# Altium footprint library Hengeveld.PCBLIB: 22 footprints (part 2 of 2)
Each footprint in its own frame and in the unit in brackets; x right, y up, seen from the top. Pads: shape width x height; smd on the part's side, far side on the other; paste and mask are expansions set on the pad; w line width, h text height; cw(c..) or ccw(c..) is an arc to the next point about the centre after c.
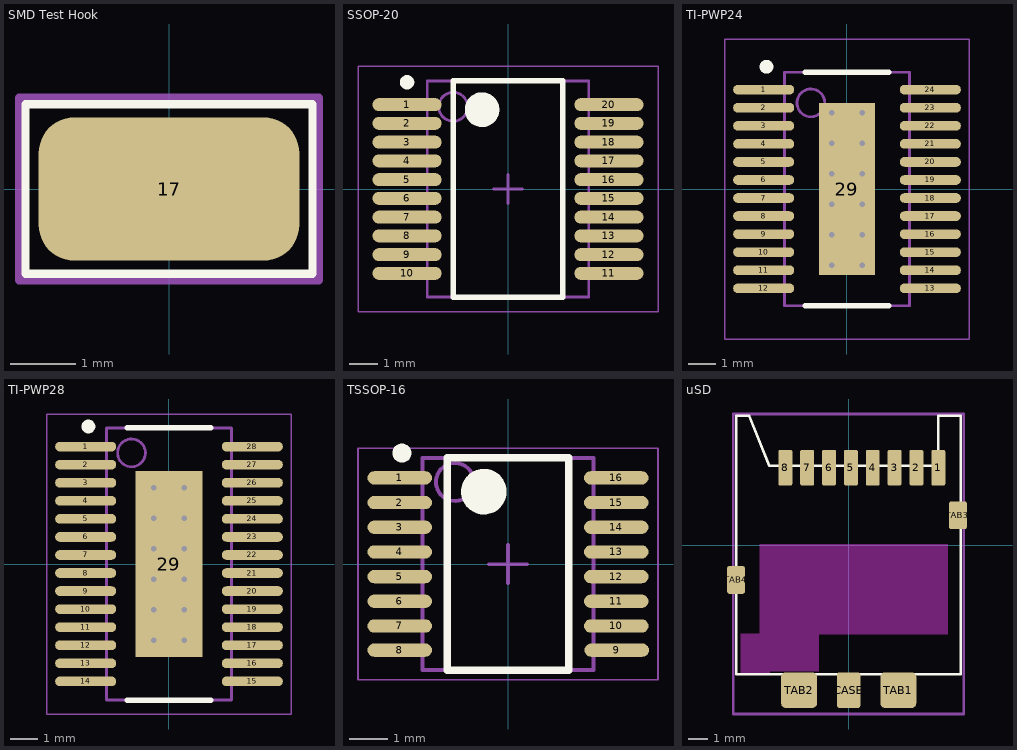
[diagram p1: the footprints below, top view; thin cyan lines are the x and y axes]

## SMD Test Hook [mm] "SMD Test Hook"
height 2.5
pads (1):
  rrect50% 4x2.2 smd: 17(0,0)
Top Overlay:
  lines w0.127: -2.2,-1.3 2.2,-1.3 2.2,1.3 -2.2,1.3 -2.2,-1.3
Mechanical 15:
  lines w0.127: -2.3,-1.4 2.3,-1.4 2.3,1.4 -2.3,1.4 -2.3,-1.4
3D body "Test Point.step": height 2.29, standoff 0, extent -1.905,-1 1.905,1

## SSOP-20 [mm] "SOP, 20-Leads, Body 7.2x5.2mm, Pitch 0.65mm, IPC Low Density"
height 2
pads (20):
  oval 2.4x0.45 smd: 1(-3.5,2.925) 2(-3.5,2.275) 3(-3.5,1.625) 4(-3.5,0.975) 5(-3.5,0.325) 6(-3.5,-0.325) 7(-3.5,-0.975) 8(-3.5,-1.625) 9(-3.5,-2.275) 10(-3.5,-2.925) 11(3.5,-2.925) 12(3.5,-2.275) 13(3.5,-1.625) 14(3.5,-0.975) 15(3.5,-0.325) 16(3.5,0.325) 17(3.5,0.975) 18(3.5,1.625) 19(3.5,2.275) 20(3.5,2.925)
Top Overlay:
  circle w0.25: c-3.5,3.7 r0.125
  circle w0.6: c-0.9,2.75 r0.3
  lines w0.2: -1.9,-3.75 -1.9,3.75 1.9,3.75 1.9,-3.75 -1.9,-3.75
tTest:
  circle w0.1: c-1.9,2.85 r0.5
  lines w0.1: -2.8,-3.75 -2.8,3.75 2.8,3.75 2.8,-3.75 -2.8,-3.75
Mechanical 15:
  lines w0.05: -5.2,-4.25 -5.2,4.25 5.2,4.25 5.2,-4.25 -5.2,-4.25
  lines w0.1: -0.5,0 0.5,0 ; 0,-0.5 0,0.5
3D body "SSOP-20-5_3.step": height 1.1, standoff -0.1, extent -3.9,-3.56 3.9,3.64

## TI-PWP24 [mm] "SOP, 28-Leads, Body 9.7x4.4mm, Pitch 0.65mm, Thermal Pad 5.72 x 1.95mm, IPC Low Density"
height 1.2
pads (25):
  oval 2.2x0.35 smd: 1(-3,3.575) 2(-3,2.925) 3(-3,2.275) 4(-3,1.625) 5(-3,0.975) 6(-3,0.325) 7(-3,-0.325) 8(-3,-0.975) 9(-3,-1.625) 10(-3,-2.275) 11(-3,-2.925) 12(-3,-3.575) 13(3,-3.575) 14(3,-2.925) 15(3,-2.275) 16(3,-1.625) 17(3,-0.975) 18(3,-0.325) 19(3,0.325) 20(3,0.975) 21(3,1.625) 22(3,2.275) 23(3,2.925) 24(3,3.575)
  rect 2x6.2 smd: 29(0,0)
via 0.55,-2.75 diameter 0.5 hole 0.2
via -0.55,-2.75 diameter 0.5 hole 0.2
via 0.55,-1.65 diameter 0.5 hole 0.2
via -0.55,-1.65 diameter 0.5 hole 0.2
via 0.55,-0.55 diameter 0.5 hole 0.2
via -0.55,-0.55 diameter 0.5 hole 0.2
via 0.55,0.55 diameter 0.5 hole 0.2
via -0.55,0.55 diameter 0.5 hole 0.2
via 0.55,1.65 diameter 0.5 hole 0.2
via -0.55,1.65 diameter 0.5 hole 0.2
via 0.55,2.75 diameter 0.5 hole 0.2
via -0.55,2.75 diameter 0.5 hole 0.2
Top Overlay:
  circle w0.25: c-2.9,4.4 r0.125
  lines w0.2: -1.5,-4.2 1.5,-4.2 ; -1.5,4.2 1.5,4.2
tTest:
  circle w0.1: c-1.3,3.1 r0.5
  lines w0.1: -2.25,-4.2 2.25,-4.2 2.25,4.2 -2.25,4.2 -2.25,-4.2
Mechanical 15:
  lines w0.05: -4.4,-5.4 4.4,-5.4 4.4,5.4 -4.4,5.4 -4.4,-5.4
  lines w0.1: -0.5,0 0.5,0 ; 0,-0.5 0,0.5
3D body "User Library-SOT340-1.STEP": height 1.9, standoff 0, extent -3.775,-4.136 3.775,4.096

## TI-PWP28 [mm] "SOP, 28-Leads, Body 9.7x4.4mm, Pitch 0.65mm, Thermal Pad 5.72 x 1.95mm, IPC Low Density"
height 1.2
pads (29):
  oval 2.2x0.35 smd: 1(-3,4.225) 2(-3,3.575) 3(-3,2.925) 4(-3,2.275) 5(-3,1.625) 6(-3,0.975) 7(-3,0.325) 8(-3,-0.325) 9(-3,-0.975) 10(-3,-1.625) 11(-3,-2.275) 12(-3,-2.925) 13(-3,-3.575) 14(-3,-4.225) 15(3,-4.225) 16(3,-3.575) 17(3,-2.925) 18(3,-2.275) 19(3,-1.625) 20(3,-0.975) 21(3,-0.325) 22(3,0.325) 23(3,0.975) 24(3,1.625) 25(3,2.275) 26(3,2.925) 27(3,3.575) 28(3,4.225)
  rect 2.4x6.69 smd: 29(0,0)
via 0.55,-2.75 diameter 0.5 hole 0.2
via -0.55,-2.75 diameter 0.5 hole 0.2
via 0.55,-1.65 diameter 0.5 hole 0.2
via -0.55,-1.65 diameter 0.5 hole 0.2
via 0.55,-0.55 diameter 0.5 hole 0.2
via -0.55,-0.55 diameter 0.5 hole 0.2
via 0.55,0.55 diameter 0.5 hole 0.2
via -0.55,0.55 diameter 0.5 hole 0.2
via 0.55,1.65 diameter 0.5 hole 0.2
via -0.55,1.65 diameter 0.5 hole 0.2
via 0.55,2.75 diameter 0.5 hole 0.2
via -0.55,2.75 diameter 0.5 hole 0.2
Top Overlay:
  circle w0.25: c-2.9,4.95 r0.125
  lines w0.2: -1.5,-4.9 1.5,-4.9 ; -1.5,4.9 1.5,4.9
tTest:
  circle w0.1: c-1.35,4 r0.5
  lines w0.1: -2.25,-4.9 2.25,-4.9 2.25,4.9 -2.25,4.9 -2.25,-4.9
Mechanical 15:
  lines w0.05: -4.4,-5.4 4.4,-5.4 4.4,5.4 -4.4,5.4 -4.4,-5.4
  lines w0.1: -0.5,0 0.5,0 ; 0,-0.5 0,0.5
3D body "TSSOP-28.STEP": height 2, standoff 0, extent -3.9,-5.12 3.9,5.08

## TSSOP-16 [mm] "TSOP, 14-Leads, Body 5x4.4mm, Pitch 0.65mm, IPC Medium Density"
height 1.2
pads (16):
  oval 1.7x0.35 smd: 1(-2.85,2.268) 2(-2.85,1.617) 3(-2.85,0.968) 4(-2.85,0.318) 5(-2.85,-0.332) 6(-2.85,-0.982) 7(-2.85,-1.632) 8(-2.85,-2.267) 9(2.865,-2.267) 10(2.85,-1.632) 11(2.85,-0.982) 12(2.85,-0.332) 13(2.85,0.318) 14(2.85,0.968) 15(2.85,1.617) 16(2.85,2.268)
Top Overlay:
  circle w0.25: c-2.794,2.921 r0.125
  circle w0.6: c-0.635,1.905 r0.3
  lines w0.2: -1.6,-2.794 -1.6,2.794 1.6,2.794 1.6,-2.794 -1.6,-2.794
tTest:
  circle w0.1: c-1.397,2.159 r0.5
  lines w0.1: -2.25,-2.794 -2.25,2.794 2.25,2.794 2.25,-2.794 -2.25,-2.794
Mechanical 15:
  lines w0.05: -3.95,-3.048 -3.95,3.048 3.95,3.048 3.95,-3.048 -3.95,-3.048
  lines w0.1: -0.5,-0.005 0.5,-0.005 ; 0,-0.5 0,0.5
3D body "TSSOP16.stp": height 1.11, standoff 0.01, extent -3.215,-2.551 3.215,2.551

## uSD [mm] "uSD Card Holder"
height 2
pads (13):
  rrect25% 0.7x1.8 smd: 1(4.51,3.9) 2(3.41,3.9) 3(2.31,3.9) 4(1.21,3.9) 5(0.11,3.9) 6(-0.99,3.9) 7(-2.09,3.9) 8(-3.19,3.9)
  rrect25% 1.2x1.8 smd: CASE(0,-7.3)
  rrect25% 1.8x1.8 smd: TAB1(2.5,-7.3) TAB2(-2.5,-7.3)
  rrect25% 0.9x1.4 smd: TAB3(5.5,1.5) TAB4(-5.671,-1.75)
Top Overlay:
  lines w0.127: -5.65,-6.5 5.65,-6.5 5.65,6.5 4.5,6.5 4.5,4 -2.5,4 -4,4 -5,6.5 -5.65,6.5 -5.65,-6.5
Keep-Out Layer:
  rectangle: -4,-6.35 -1.5,-4.45
  rectangle: -5.45,-6.45 -3.95,-4.45
  rectangle: -4.5,-4.5 5,0.05
Mechanical 15:
  lines w0.127: -5.8,-8.5 -5.8,6.6 5.8,6.6 5.8,-8.5 -5.8,-8.5
3D body "5040771891.stp": height 1.41, standoff 0.13, extent -5.671,-6.785 5.709,6.715